# Altium schematic symbol library SCH - DRIVER - LED - TI LM3519MK-20.SchLib: 1 symbol
Pins are listed as number, name and electrical type; pins without a type are passive.

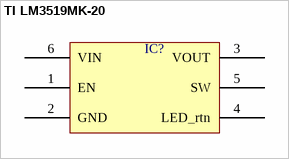
[diagram p0: symbol TI LM3519MK-20]

## TI LM3519MK-20
designator IC?  (value not drawn)
pins: 1 EN, 2 GND, 3 VOUT, 4 LED_rtn, 5 SW, 6 VIN